# EAGLE library part VS1011_VS1011 (library daisy_mp3)
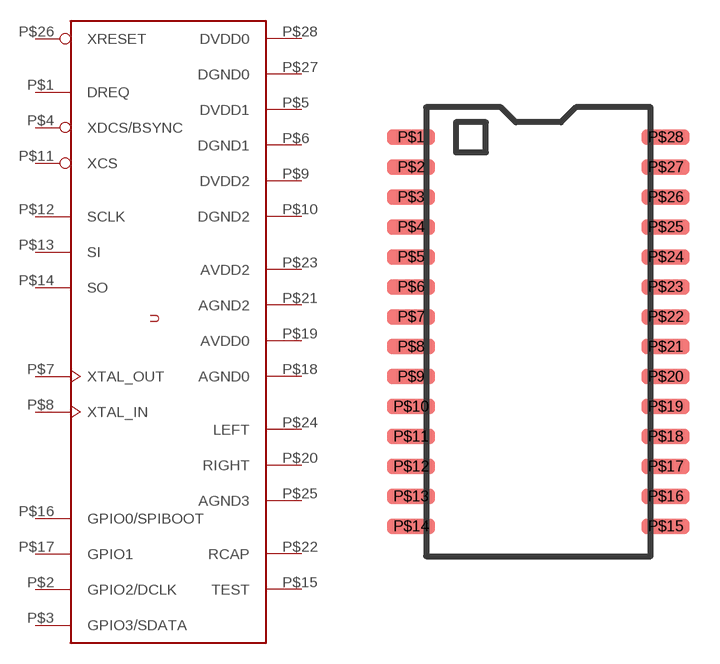
[diagram p5: symbol with the pads of VS1011_SOIC28; footprint VS1011_SOIC28]

Designator prefix -

## VS1011_VS1011  [VS1011_SOIC28]
P$1  DREQ  out
P$2  GPIO2/DCLK
P$3  GPIO3/SDATA  in
P$4  XDCS/BSYNC  in
P$5  DVDD1  pwr
P$6  DGND1  pwr
P$7  XTAL_OUT
P$8  XTAL_IN
P$9  DVDD2  pwr
P$10  DGND2  pwr
P$11  XCS  in
P$12  SCLK  in
P$13  SI  in
P$14  SO  out
P$15  TEST  in
P$16  GPIO0/SPIBOOT
P$17  GPIO1
P$18  AGND0  pwr
P$19  AVDD0  pwr
P$20  RIGHT  out
P$21  AGND2  pwr
P$22  RCAP
P$23  AVDD2  pwr
P$24  LEFT  out
P$25  AGND3  pwr
P$26  XRESET  in
P$27  DGND0  pwr
P$28  DVDD0  pwr

## Footprint VS1011_SOIC28 (pad centres in mm)
smd 2.032 x 0.66: P$1 -5.715,8.255; P$2 -5.715,6.985; P$3 -5.715,5.715; P$4 -5.715,4.445; P$5 -5.715,3.175; P$6 -5.715,1.905; P$7 -5.715,0.635; P$8 -5.715,-0.635; P$9 -5.715,-1.905; P$10 -5.715,-3.175; P$11 -5.715,-4.445; P$12 -5.715,-5.715; P$13 -5.715,-6.985; P$14 -5.715,-8.255; P$15 5.08,-8.255; P$16 5.08,-6.985; P$17 5.08,-5.715; P$18 5.08,-4.445; P$19 5.08,-3.175; P$20 5.08,-1.905; P$21 5.08,-0.635; P$22 5.08,0.635; P$23 5.08,1.905; P$24 5.08,3.175; P$25 5.08,4.445; P$26 5.08,5.715; P$27 5.08,6.985; P$28 5.08,8.255